# EAGLE library part A6FR-8104 (library piano_dip_8)
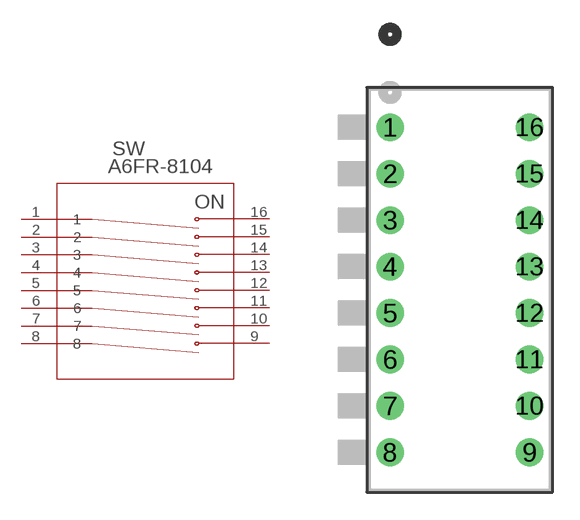
[diagram p0: symbol with the pads of SW_A6FR-8104_OMR; footprint SW_A6FR-8104_OMR]

Designator prefix SW

## A6FR-8104SW_A6FR-8104_OMR (Copyright: Copyright (C) 2022 Ultra Librarian. All rights reserved.; Manufacturer_Part_Number: A6FR-8104; Mfr_Name: Omron)  [SW_A6FR-8104_OMR]
1  1  pas
2  2  pas
3  3  pas
4  4  pas
5  5  pas
6  6  pas
7  7  pas
8  8  pas
9  9  pas
10  10  pas
11  11  pas
12  12  pas
13  13  pas
14  14  pas
15  15  pas
16  16  pas

## Footprint SW_A6FR-8104_OMR (pad centres in mm)
drill 0.991 pad 1.508 round: 1 -7.62,17.78; 2 -7.62,15.24; 3 -7.62,12.7; 4 -7.62,10.16; 5 -7.62,7.62; 6 -7.62,5.08; 7 -7.62,2.54; 8 -7.62,0; 9 0,0; 10 0,2.54; 11 0,5.08; 12 0,7.62; 13 0,10.16; 14 0,12.7; 15 0,15.24; 16 0,17.78